# EAGLE library part REG71050DDCT (library Maviengin)
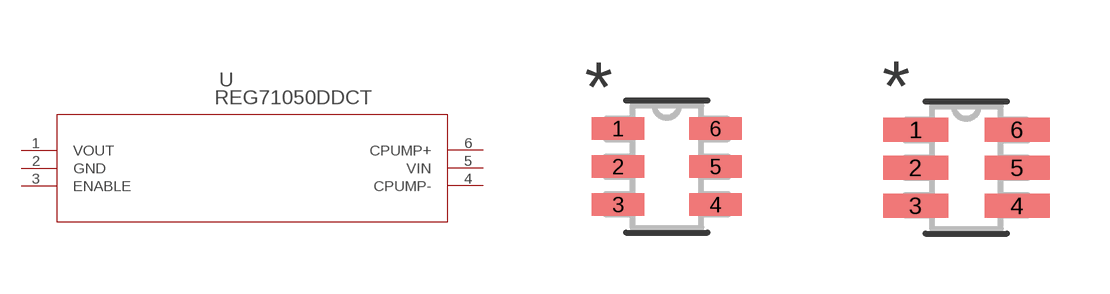
[diagram p1: symbol with the pads of DDC6; footprints DDC6, DDC6-M]

Designator prefix U

## REG71050DDCT (MANUFACTURER_PART_NUMBER: REG71050DDCT; VENDOR: Texas Instruments)  [DDC6]
1  VOUT  out
2  GND  pwr
3  ENABLE  pas
4  CPUMP-  pas
5  VIN  in
6  CPUMP+  pas

## REG71050DDCTDDC6-M (MANUFACTURER_PART_NUMBER: REG71050DDCT; VENDOR: Texas Instruments)  [DDC6-M]
Pads as for DDC6

## REG71050DDCTDDC6-L (MANUFACTURER_PART_NUMBER: REG71050DDCT; VENDOR: Texas Instruments)  [DDC6-L]
Pads as for DDC6

## Footprint DDC6 (pad centres in mm)
smd 1.321 x 0.559: 1 -1.219,0.95; 2 -1.219,0; 3 -1.219,-0.95; 4 1.219,-0.95; 5 1.219,0; 6 1.219,0.95

## Footprint DDC6-M (pad centres in mm)
smd 1.626 x 0.61: 1 -1.27,0.95; 2 -1.27,0; 3 -1.27,-0.95; 4 1.27,-0.95; 5 1.27,0; 6 1.27,0.95

## Footprint DDC6-L (pad centres in mm)
smd 1.016 x 0.508: 1 -1.168,0.95; 2 -1.168,0; 3 -1.168,-0.95; 4 1.168,-0.95; 5 1.168,0; 6 1.168,0.95